# Altium schematic symbol library dingo_schemlib.SchLib: 8 symbols
Pins are listed as number, name and electrical type; pins without a type are passive.

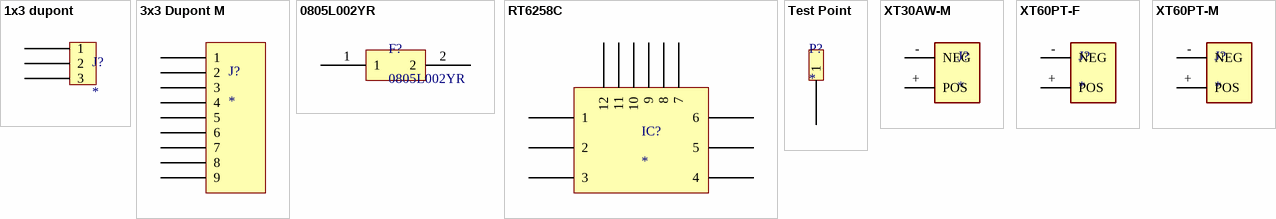
[diagram p0: symbols 1x3 dupont to XT60PT-M]

## 1x3 dupont
designator J?
Connector; Manufacturer_Name: SAMTEC; Manufacturer_Part_Number: TSW-106-07-L-T; Datasheet Link: http://suddendocs.samtec.com/catalog_english/tsw_th.pdf; Height: 8.38mm; Mouser Part Number: 200-TSW10607LT; Mouser Price/Stock: https://www.mouser.co.uk/ProductDetail/Samtec/TSW-106-07-L-T?qs=rU5fayqh%252BE39iyDwG6o8Cg%3D%3D; Arrow Part Number: TSW-106-07-L-T; Arrow Price/Stock: https://www.arrow.com/en/products/tsw-106-07-l-t/samtec
footprint 1x3 Dupont
pins: 1, 2, 3

## 3x3 Dupont M
designator J?
Connector; Manufacturer_Name: SAMTEC; Manufacturer_Part_Number: TSW-106-07-L-T; Datasheet Link: http://suddendocs.samtec.com/catalog_english/tsw_th.pdf; Height: 8.38mm; Mouser Part Number: 200-TSW10607LT; Mouser Price/Stock: https://www.mouser.co.uk/ProductDetail/Samtec/TSW-106-07-L-T?qs=rU5fayqh%252BE39iyDwG6o8Cg%3D%3D; Arrow Part Number: TSW-106-07-L-T; Arrow Price/Stock: https://www.arrow.com/en/products/tsw-106-07-l-t/samtec
footprint 3x3 Dupont M
pins: 1, 2, 3, 4, 5, 6, 7, 8, 9

## 0805L002YR
designator F?
Fuse
footprint 0805L002YR (Fuse)
pins: 1, 2

## RT6258C
designator IC?
5V 8A REG with LDO
footprint RT6258C
pins: 1, 2, 3, 4, 5, 6, 7, 8, 9, 10, 11, 12

## Test Point
designator P?
footprint Test Point
pins: 1

## XT30AW-M
designator J?
XT30 pins
footprint XT30AW-M (XT30 male)
pins: + POS, - NEG

## XT60PT-F
designator J?
Female SMT XT60 Connector
footprint XT60PT-F
pins: + POS, - NEG

## XT60PT-M
designator J?
Male SMT XT60 Connector
footprint XT60PT-M
pins: + POS, - NEG